# Altium schematic symbol library DF632P396DSA.SchLib: 1 symbol
Pins are listed as number, name and electrical type; pins without a type are passive.

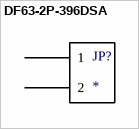
[diagram p0: symbol DF63-2P-396DSA]

## DF63-2P-396DSA
designator JP?
footprint DF63-2P-39DSA
pins: 1, 2